# Altium footprint library axsem_symbols.PCBLIB: 5 footprints
Each footprint in its own frame and in the unit in brackets; x right, y up, seen from the top. Pads: shape width x height; smd on the part's side, far side on the other; paste and mask are expansions set on the pad; w line width, h text height; cw(c..) or ccw(c..) is an arc to the next point about the centre after c.
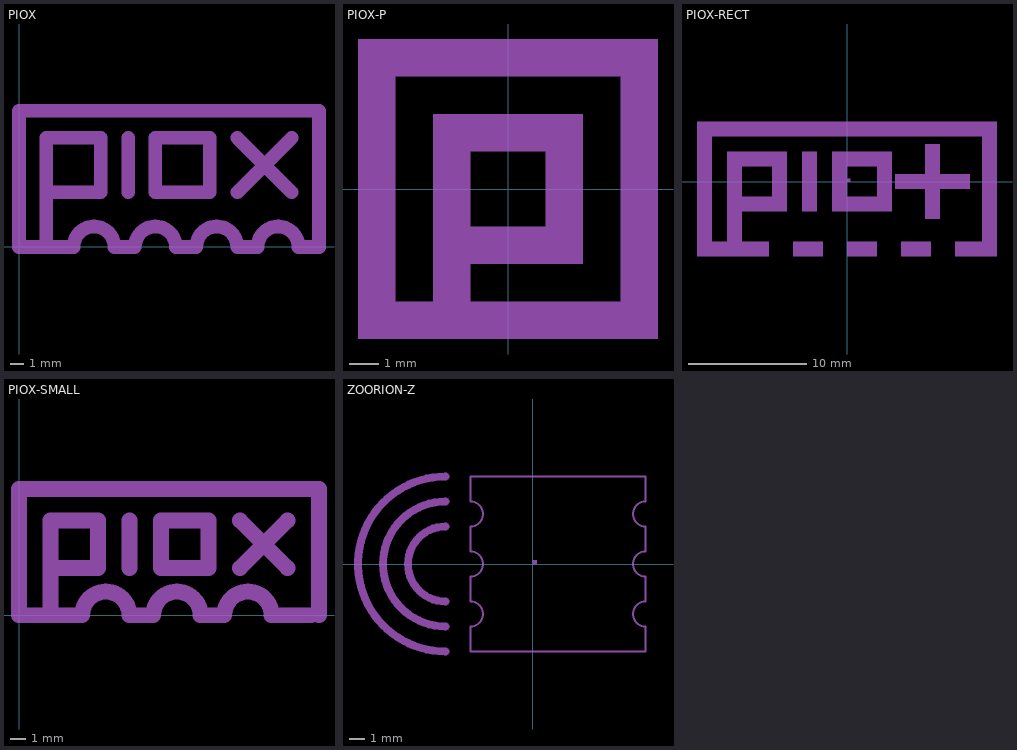
[diagram p0: the footprints below, top view; thin cyan lines are the x and y axes]

## PIOX [mm]
Mechanical 16:
  lines w1: 8,4 8,8 ; 16,4 20,8 ; 16,8 20,4 ; 2,0 2,4 ; 2,0 0,0 0,10 22,10 22,0 20.5,0 ccw(c19,0) 19,1.5 ccw(c19,0) 17.5,0 16,0 ccw(c14.5,0) 14.5,1.5 ccw(c14.5,0) 13,0 11.5,0 ccw(c10,0) 10,1.5 ccw(c10,0) 8.5,0 7,0 ccw(c5.5,0) 5.5,1.5 ccw(c5.5,0) 4,0 2,0 ; 2,4 6,4 6,8 2,8 2,4 ; 10,4 14,4 14,8 10,8 10,4

## PIOX-P [mm]
Mechanical 16:
  rectangle: -2.54,1.27 2.54,2.54
  rectangle: -2.54,-2.54 2.54,-1.27
  rectangle: -2.54,-5.08 -1.27,2.54
  rectangle: 1.27,-2.54 2.54,2.54
  rectangle: -5.08,-5.08 5.08,-3.81
  rectangle: -5.08,3.81 5.08,5.08
  rectangle: 3.81,-5.08 5.08,5.08
  rectangle: -5.08,-5.08 -3.81,5.08

## PIOX-RECT [mm]
Mechanical 16:
  rectangle: -10.16,1.27 -5.08,2.54
  rectangle: -10.16,-2.54 -5.08,-1.27
  rectangle: -10.16,-5.08 -8.89,2.54
  rectangle: -6.35,-2.54 -5.08,2.54
  rectangle: -3.81,-2.54 -2.54,2.54
  rectangle: -1.27,-2.54 0,2.54
  rectangle: 2.54,-2.54 3.81,2.54
  rectangle: -1.27,-2.54 3.81,-1.27
  rectangle: -1.27,1.27 3.81,2.54
  rectangle: 6.613,-3.175 7.883,3.175
  rectangle: 4.073,-0.635 10.423,0.635
  rectangle: -12.7,-6.35 -11.43,5.08
  rectangle: -12.7,3.81 12.7,5.08
  rectangle: 11.43,-6.35 12.7,5.08
  rectangle: -12.7,-6.35 -6.604,-5.08
  rectangle: -4.572,-6.35 -2.032,-5.08
  rectangle: 0,-6.35 2.54,-5.08
  rectangle: 4.572,-6.35 7.112,-5.08
  rectangle: 9.144,-6.35 12.7,-5.08
  region: 0,0 0.254,0 0.254,0.254 0,0.254
  region: 0,0 0.254,0 0.254,0.254 0,0.254
  region: 0,0 0.254,0 0.254,0.254 0,0.254
  region: 0,0 0.254,0 0.254,0.254 0,0.254

## PIOX-SMALL [mm]
Mechanical 16:
  lines w1: 7,3 7,6 ; 14,3 17,6 ; 14,6 17,3 ; 18.5,0 16,0 ccw(c14.5,0) 14.5,1.5 ccw(c14.5,0) 13,0 11.5,0 ccw(c10,0) 10,1.5 ccw(c10,0) 8.5,0 7,0 ccw(c5.5,0) 5.5,1.5 ccw(c5.5,0) 4,0 2,0 ; 19,0 19,8 0,8 0,0 2,0 ; 2,0 2,3 ; 2,3 5,3 5,6 2,6 2,3 ; 9,3 12,3 12,6 9,6 9,3

## ZOORION-Z [mm]
Mechanical 16:
  region: 0,0 0.254,0 0.254,0.254 0,0.254
  lines w0.127: -4,-5.6 -4,-4 ccw(c-4,-3.2) -4,-2.4 -4,-0.8 ccw(c-4,0) -4,0.8 -4,2.4 ccw(c-4,3.2) -4,4 -4,5.6 7.2,5.6 7.2,4 ccw(c7.2,3.2) 7.2,2.4 7.2,0.8 ccw(c7.2,0) 7.2,-0.8 7.2,-2.4 ccw(c7.2,-3.2) 7.2,-4 7.2,-5.6 -4,-5.6
  lines w0.5: -5.6,-5.6 cw(c-5.6,0) -5.6,5.6 ; -5.6,-4 cw(c-5.6,0) -5.6,4 ; -5.6,-2.4 cw(c-5.6,0) -5.6,2.4